# EAGLE library part WIFI_KIT32 (library CRD)
Placa de desenvolvimento ESP32 da Heltech
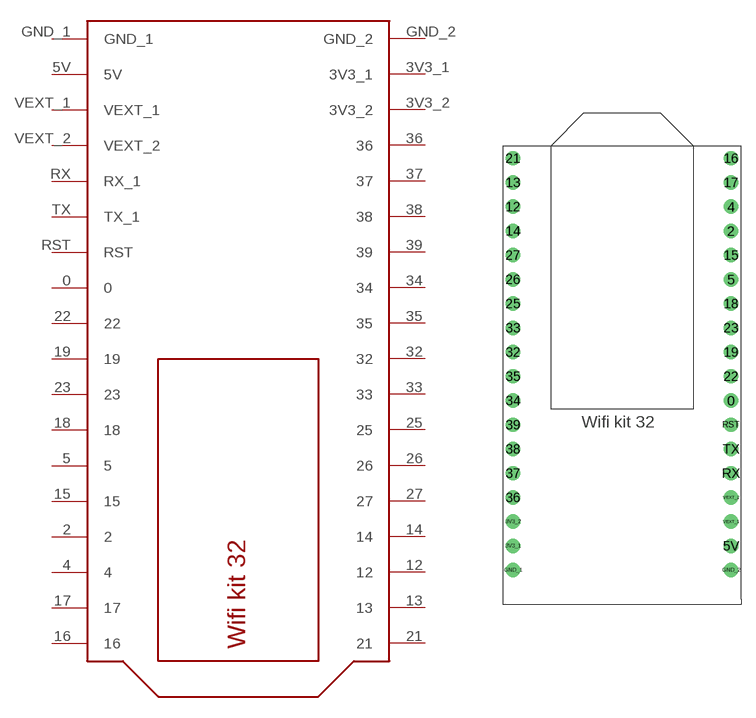
[diagram p6: symbol with the pads of WIFI_KIT32_FOOTPRINT; footprint WIFI_KIT32_FOOTPRINT]

Designator prefix -

## WIFI_KIT32  [WIFI_KIT32_FOOTPRINT]
0  0
2  2
3V3_1  3V3_1
3V3_2  3V3_2
4  4
5  5
5V  5V
12  12
13  13
14  14
15  15
16  16
17  17
18  18
19  19
21  21
22  22
23  23
25  25
26  26
27  27
32  32
33  33
34  34
35  35
36  36
37  37
38  38
39  39
GND_1  GND_1
GND_2  GND_2
RST  RST
RX  RX_1
TX  TX_1
VEXT_1  VEXT_1
VEXT_2  VEXT_2

## Footprint WIFI_KIT32_FOOTPRINT (pad centres in mm)
drill 1: 0 11.43,6.35; 2 11.43,24.13; 3V3_1 -11.43,-8.89; 3V3_2 -11.43,-6.35; 4 11.43,26.67; 5 11.43,19.05; 5V 11.43,-8.89; 12 -11.43,26.67; 13 -11.43,29.21; 14 -11.43,24.13; 15 11.43,21.59; 16 11.43,31.75; 17 11.43,29.21; 18 11.43,16.51; 19 11.43,11.43; 21 -11.43,31.75; 22 11.43,8.89; 23 11.43,13.97; 25 -11.43,16.51; 26 -11.43,19.05; 27 -11.43,21.59; 32 -11.43,11.43; 33 -11.43,13.97; 34 -11.43,6.35; 35 -11.43,8.89; 36 -11.43,-3.81; 37 -11.43,-1.27; 38 -11.43,1.27; 39 -11.43,3.81; GND_1 -11.43,-11.43; GND_2 11.43,-11.43; RST 11.43,3.81; RX 11.43,-1.27; TX 11.43,1.27; VEXT_1 11.43,-6.35; VEXT_2 11.43,-3.81